# Altium footprint library SM04B-SURS-TF(LF)(SN).PcbLib: 1 footprints
Each footprint in its own frame and in the unit in brackets; x right, y up, seen from the top. Pads: shape width x height; smd on the part's side, far side on the other; paste and mask are expansions set on the pad; w line width, h text height; cw(c..) or ccw(c..) is an arc to the next point about the centre after c.
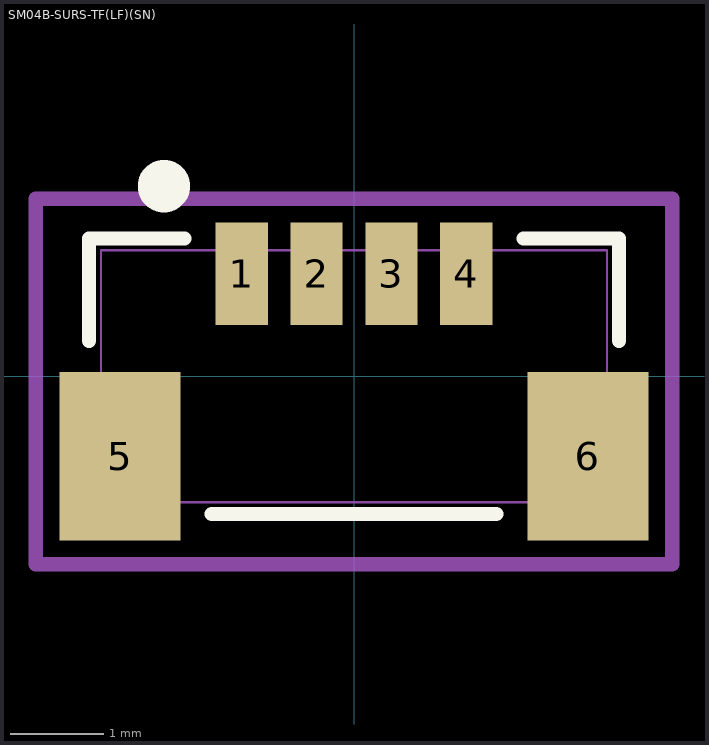
[diagram p0: the footprint, top view; thin cyan lines are the x and y axes]

## SM04B-SURS-TF(LF)(SN) [mil]
pads (6):
  rect 22x43 smd paste+0: 1(-47.24,43.16) 2(-15.75,43.16) 3(15.75,43.16) 4(47.24,43.16)
  rect 51x71 smd: 5(-98.43,-33.61) 6(98.43,-33.61)
Top Overlay:
  circle w20: c-80,80 r1
  lines w6: -111.5,14.99 -111.5,58 -71.34,58 ; -59.83,-58 59.83,-58 ; 71.34,58 111.5,58 111.5,14.99
Mechanical 13:
  lines w1: -106.5,-53 106.5,-53 106.5,53 -106.5,53 -106.5,-53
Mechanical 15:
  lines w6: -133.93,-79.11 -133.93,74.66 133.93,74.66 133.93,-79.11 -133.93,-79.11
3D body "SM04B-SURS-TF.STEP": height 66.93, standoff -1.97, extent -106.3,-53.3 106.3,53